# Altium integrated library MU-RK3576J-MB.IntLib: 262 symbols (part 1 of 4)
Pins are listed as number, name and electrical type; pins without a type are passive.

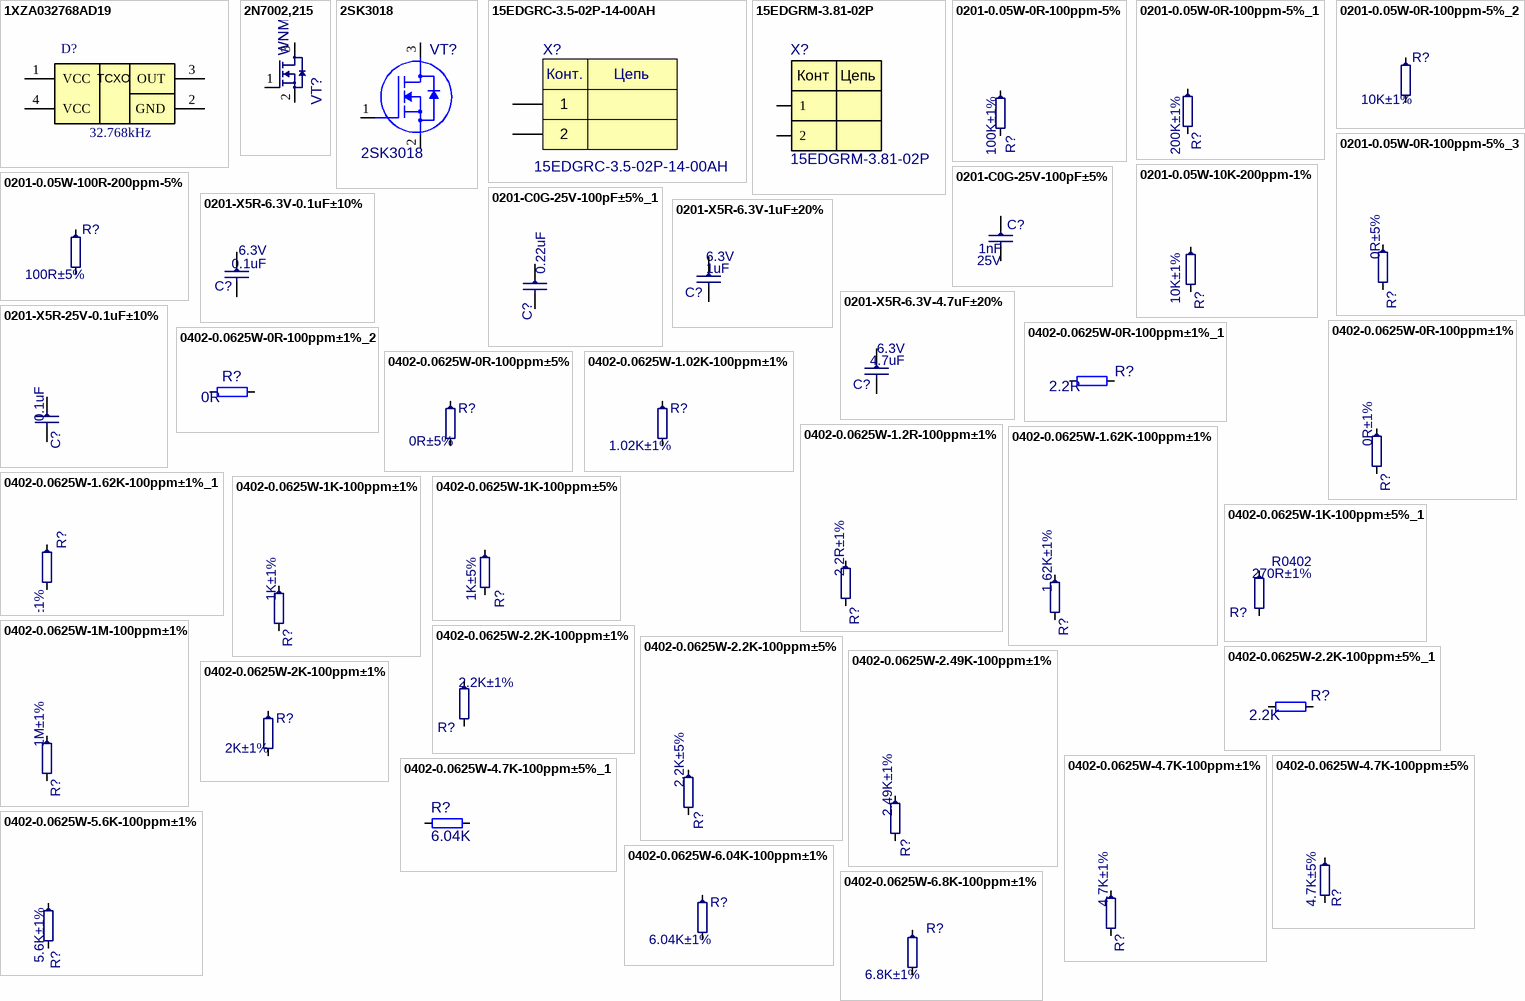
[diagram p0: symbols 1XZA032768AD19 to 0402-0.0625W-6.8K-100ppm±1%]

## 1XZA032768AD19
designator D?, comment 32.768kHz
Part Number: 1XZA032768AD19; Manufacturer: KDS; Check: False; NameFromManufacturer: 1XZA032768AD19; Value: 32.768kHz
footprint 1XZA032768AD19
pins: 1 VCC, 2 GND, 3 OUT, 4 VCC
text: TCXO

## 2N7002,215
designator VT?, comment WNM2016
60V 3A 0.35W Surface Mount SOT-23; Manufacturer: KUU Semiconductor; Place: *); Check: False; Part Number: WNM2016; Voltage: 60V; Value: WNM2016; Temperature: -65°C~150°C";; ComponentLink1Description: DATASHEET; NameFromManufacturer: WNM2016; ComponentLink1URL: https://assets.nexperia.com/documents/data-sheet/2N7002.pdf; Last changeв: 27.10.2022
footprint SOT23
pins: 1 G, 2 S, 3 D

## 2SK3018
designator VT?
N-Channel; Check: False; Part Number: 2SK3018; Value: 2SK3018; NameFromManufacturer: 2SK3018
footprint 2SK3018
pins: 1 G, 2 S, 3 D

## 15EDGRC-3.5-02P-14-00AH
designator X?
Terminal block 2; Manufacturer: Degson; Place: *); Check: False; Part Number: 15EDGRC-3.5-02P-14-00AH; Value: 15EDGRC-3.5-02P-14-00AH; Temperature: -40°C~105°C; ComponentLink1Description: DATASHEET; NameFromManufacturer: 15EDGRC-3.5-02P-14-00AH; ComponentLink1URL: https://octopart.com/15edgrc-3.5-02p-14-00ah-degson-71132713?r=sp; Datasheet: Datasheets/connectors/DOC000872098.pdf; Last changed: 27.10.2022
footprint D1RFRD006-02
pins: 1, 2
text: Конт.; Цепь

## 15EDGRM-3.81-02P
designator X?
Разъемный клеммный блок на плату, 2 контакта. Серия 15EDGRM-3.81; Manufacturer: DEGSON; Check: False; Part Number: 15EDGRM-3.81-02P; Value: 15EDGRM-3.81-02P; NameFromManufacturer: 15EDGRM-3.81-02P
footprint 15EDGRM-3.81-02P
pins: 1, 2
text: Конт; Цепь

## 0201-0.05W-0R-100ppm-5%
designator R?, comment 100K±1%
*; Part Number: 0201-0.05W-100K-5%; NameFromManufacturer: RC0201FR-07100KL; Manufacturer: Yageo; Place: *); Value: 100K; Tolerance: 1%; Check: False; Case: R0201; Temperature: -40°C~125°C; ComponentLink1Description: DATASHEET; ComponentLink1URL: https://www.digikey.com/en/products/detail/yageo/RC0201JR-070RL/1948898; Datasheet: Datasheets/resistors/PYu-RC_Group_51_RoHS_L_11.pdf+BB3:B271; Last changed: 27.10.2022
simulation model Resistor (Model Description)
footprint R0201
pins: 1, 2

## 0201-0.05W-0R-100ppm-5%_1
designator R?, comment 200K±1%
*; Part Number: 0201-0.05W-200K-100ppm-1%; NameFromManufacturer: RC0201FR-07200KL; Manufacturer: Yageo; Place: *); Value: 200K; Tolerance: 1%; Check: False; Case: R0201; Temperature: -40°C~125°C; ComponentLink1Description: DATASHEET; ComponentLink1URL: https://www.digikey.com/en/products/detail/yageo/RC0201JR-070RL/1948898; Datasheet: Datasheets/resistors/PYu-RC_Group_51_RoHS_L_11.pdf+BB3:B271; Last changed: 27.10.2022
simulation model Resistor (Model Description)
footprint R0201
pins: 1, 2

## 0201-0.05W-0R-100ppm-5%_2
designator R?, comment 10K±1%
*; Part Number: 0201-0.05W-10K-100ppm-1%; NameFromManufacturer: RC0201FR-0710KL; Manufacturer: Yageo; Place: *); Value: 10K; Tolerance: 1%; Check: False; Case: R0201; Temperature: -40°C~125°C; ComponentLink1Description: DATASHEET; ComponentLink1URL: https://www.digikey.com/en/products/detail/yageo/RC0201JR-070RL/1948898; Datasheet: Datasheets/resistors/PYu-RC_Group_51_RoHS_L_11.pdf+BB3:B271; Last changed: 27.10.2022
simulation model Resistor (Model Description)
footprint R0201
pins: 1, 2

## 0201-0.05W-0R-100ppm-5%_3
designator R?, comment 0R±5%
*; Part Number: 0201-0.05W-0R-100ppm-5%; NameFromManufacturer: RC0201JR-070RL; Manufacturer: Yageo; Place: *); Value: 0R; Tolerance: 5%; Check: False; Case: R0201; Temperature: -40°C~125°C; ComponentLink1Description: DATASHEET; ComponentLink1URL: https://www.digikey.com/en/products/detail/yageo/RC0201JR-070RL/1948898; Datasheet: Datasheets/resistors/PYu-RC_Group_51_RoHS_L_11.pdf+BB3:B271; Last changed: 27.10.2022
simulation model Resistor (Model Description)
footprint R0201
pins: 1, 2

## 0201-0.05W-10K-200ppm-1%
designator R?, comment 10K±1%
*; Part Number: 0201-0.05W-10K-200ppm-1%; NameFromManufacturer: RC0201FR-0710KL; Manufacturer: Yageo; Place: *); Value: 10K; Tolerance: 1%; Check: False; Case: R0201; Temperature: -40°C~125°C; ComponentLink1Description: DATASHEET; ComponentLink1URL: https://www.terraelectronica.ru/product/597744; Datasheet: Datasheets/resistors/PYu-RC_Group_51_RoHS_L_11.pdf; Last changed: 09.11.2022
simulation model Resistor (Model Description)
footprint R0201
pins: 1, 2

## 0201-0.05W-100R-200ppm-5%
designator R?, comment 100R±5%
*; Part Number: 0201-0.05W-100R-200ppm-5%; NameFromManufacturer: RC0201JR-07100RL; Manufacturer: Yageo; Place: *); Value: 100R; Tolerance: 5%; Check: False; Case: R0201; Temperature: -40°C~125°C; ComponentLink1Description: DATASHEET; ComponentLink1URL: https://www.terraelectronica.ru/product/431790; Datasheet: Datasheets/resistors/PYu-RC_Group_51_RoHS_L_11.pdf; Last changed: 27.10.2022
simulation model Resistor (Model Description)
footprint R0201
pins: 1, 2

## 0201-C0G-25V-100pF±5%
designator C?, comment 1nF  Voltage: 25V
*; Part Number: 0201-C0G-25V-1nF±5%; Manufacturer: muRata; NameFromManufacturer: GRM0335C1E102JA01D; Dielectric: C0G; Place: *); Tolerance: 5%; Check: False; Case: C0201; Value: 1nF; Temperature: -55°C~125°C; ComponentLink2Description: Link to datasheet; ComponentLink1Description: DATASHEET; ComponentLink2URL: https://ru.mouser.com/ProductDetail/YAGEO/CC0201JRNPO8BN101?qs=%2Fha2pyFaduhl6p6a7Jtfij5kOT7C0BCbN0eDEcSOi5wWtTVDmUsGTw%3D%3D; ComponentLink1URL: Datasheets/capacitors/UPY-GP_NP0_16V-to-50V_18.pdf; Last changed: 27.10.2022
footprint C0201
pins: 1, 2
1 alternate drawing of the same symbol

## 0201-C0G-25V-100pF±5%_1
designator C?, comment 0.22uF
*; Part Number: 0201-X5R-10V-220nF±10%; Manufacturer: Yageo; NameFromManufacturer: CC0201KRX5R6BB224; Dielectric: C0G; Voltage: 10V; Place: *); Tolerance: 5%; Check: False; Case: C0201; Value: 0.22uF; Temperature: -55°C~125°C; ComponentLink2Description: Link to datasheet; ComponentLink1Description: DATASHEET; ComponentLink2URL: https://ru.mouser.com/ProductDetail/YAGEO/CC0201JRNPO8BN101?qs=%2Fha2pyFaduhl6p6a7Jtfij5kOT7C0BCbN0eDEcSOi5wWtTVDmUsGTw%3D%3D; ComponentLink1URL: Datasheets/capacitors/UPY-GP_NP0_16V-to-50V_18.pdf; Last changed: 27.10.2022
footprint C0201
pins: 1, 2
1 alternate drawing of the same symbol

## 0201-X5R-6.3V-0.1uF±10%
designator C?, comment 0.1uF  Voltage: 6.3V
Part Number: 0201-X5R-6.3V-0.1uF±10%; Manufacturer: Yageo; NameFromManufacturer: CC0201KRX5R5BB104; Dielectric: X5R; Place: *); Tolerance: 10%; Check: False; Case: C0201; Value: 0.1uF; Temperature: -55°C~85°C; ComponentLink2Description: Link to datasheet; ComponentLink1Description: DATASHEET; ComponentLink2URL: https://www.terraelectronica.ru/product/1020032; ComponentLink1URL: Datasheets/capacitors/UPY-GPHC_X5R_4V-to-50V_27.pdf; Last changed: 27.10.2022
footprint C0201
pins: 1, 2
1 alternate drawing of the same symbol

## 0201-X5R-6.3V-1uF±20%
designator C?, comment 1uF  Voltage: 6.3V
Part Number: 0201-X5R-6.3V-1uF±20%; Manufacturer: Murata Electronics; NameFromManufacturer: GRM033R60J105MEA2D; Dielectric: X5R; Place: *); Tolerance: 20%; Check: False; Case: C0201; Value: 1uF; Temperature: -55°C~85°C; ComponentLink2Description: Link to datasheet; ComponentLink1Description: DATASHEET; ComponentLink2URL: https://www.terraelectronica.ru/product/1209278; ComponentLink1URL: Datasheets/capacitors/GRM033R60J105MEA2-61A.pdf; Last changed: 27.10.2022
footprint C0201
pins: 1, 2
1 alternate drawing of the same symbol

## 0201-X5R-6.3V-4.7uF±20%
designator C?, comment 4.7uF  Voltage: 6.3V
Part Number: 0201-X5R-6.3V-4.7uF±20%; Manufacturer: Murata Electronics; NameFromManufacturer: GRM035R60J475ME15D; Dielectric: X5R; Place: *); Tolerance: 20%; Check: False; Case: C0201; Value: 4.7uF; Temperature: -55°C~85°C; ComponentLink2Description: Link to datasheet; ComponentLink1Description: DATASHEET; ComponentLink2URL: https://www.terraelectronica.ru/product/2272938; ComponentLink1URL: Datasheets/capacitors/GRM035R60J475ME15-01A.pdf; Last changed: 27.10.2022
footprint C0201
pins: 1, 2
1 alternate drawing of the same symbol

## 0201-X5R-25V-0.1uF±10%
designator C?, comment 0.1uF
Part Number: 0201-X5R-25V-0.1uF±10%; Manufacturer: Yageo; NameFromManufacturer: CC0201KRX5R8BB104; Dielectric: X5R; Voltage: 25V; Place: *); Tolerance: 10%; Check: False; Case: C0201; Value: 0.1uF; Temperature: -55°C~85°C; ComponentLink2Description: Link to datasheet; ComponentLink1Description: DATASHEET; ComponentLink2URL: https://octopart.com/cc0201krx5r8bb104-yageo-88496683?r=sp; ComponentLink1URL: Datasheets/capacitors/UPY-GPHC_X5R_4V-to-50V_26.pdf; Last changed: 27.10.2022
footprint C0201
pins: 1, 2
1 alternate drawing of the same symbol

## 0402-0.0625W-0R-100ppm±1%
designator R?, comment 0R±1%
Chip Resistor 0402 0Ω ±1% 50V ±100ppm/℃ Thick Film; Part Number: 0402-0.0625W-0R-100ppm±1%; NameFromManufacturer: RC0402FR-070RL; Manufacturer: Yageo; Place: *); Value: 0R; Check: False; Case: R0402; Tolerance: 1%; Temperature: -55°C~155°C; ComponentLink1Description: DATASHEET; ComponentLink1URL: https://www.chipdip.ru/product0/8000617426?ysclid=l7og5x0plo427794326; Datasheet: Datasheets/resistors/DOC012445956.pdf; Last changed: 27.10.2022
simulation model Resistor (Model Description)
footprint R0402
pins: 1, 2

## 0402-0.0625W-0R-100ppm±1%_1
designator R?, comment 2.2R
Part Number: 0402-0.0625W-2.2R-100ppm±1%; NameFromManufacturer: RC0402FR-072R2L; Manufacturer: Yageo; Place: S; Tolerance: 1%; Check: False; Value: 2.2R; Temperature: -55°C~155°C; ComponentLink1Description: DATASHEET; Datasheet: Datasheets/resistors/DOC012445956.pdf; Last changed: 27.10.2022
simulation model Resistor (Model Description)
footprint R_0402
pins: 1, 2
2 alternate drawings of the same symbol

## 0402-0.0625W-0R-100ppm±1%_2
designator R?, comment 0R
Part Number: 0402-0.0625W-0R-100ppm±1%; NameFromManufacturer: RC0402FR-070RL; Manufacturer: Yageo; Place: S; Tolerance: 1%; Check: False; Value: 0R; Temperature: -55°C~155°C; ComponentLink1Description: DATASHEET; ComponentLink1URL: https://www.chipdip.ru/product0/8000617426?ysclid=l7og5x0plo427794326; Datasheet: Datasheets/resistors/DOC012445956.pdf; Last changed: 27.10.2022
simulation model Resistor (Model Description)
footprint R_0402
pins: 1, 2
2 alternate drawings of the same symbol

## 0402-0.0625W-0R-100ppm±5%
designator R?, comment 0R±5%
Part Number: 0402-0.0625W-0R-100ppm±5%; NameFromManufacturer: RC0402JR-070RL; Manufacturer: Yageo; Place: *); Value: 0R; Tolerance: 5%; Check: False; Case: R0402; Temperature: -55°C~155°C; ComponentLink1Description: DATASHEET; ComponentLink1URL: https://ru.mouser.com/ProductDetail/YAGEO/RC0402JR-070RL?qs=%2Fha2pyFadugNN0LzwXn2qP7HsQ9BBU71VWxeSOFlFaYv9aVJHghTrg%3D%3D; Datasheet: Datasheets/resistors/PYu-RC_Group_51_RoHS_L_11.pdf; Last changed: 27.10.2022
simulation model Resistor (Model Description)
footprint R0402
pins: 1, 2

## 0402-0.0625W-1.02K-100ppm±1%
designator R?, comment 1.02K±1%
Part Number: 0402-0.0625W-1.02K-100ppm±1%; NameFromManufacturer: RC0402FR-071K02L; Manufacturer: Yageo; Place: *); Value: 1.02K; Tolerance: 1%; Check: False; Case: R0402; Temperature: -55°C~155°C; ComponentLink1Description: DATASHEET; ComponentLink1URL: https://www.terraelectronica.ru/product/876888; Datasheet: Datasheets/resistors/PYu-RC_Group_51_RoHS_L_12.pdf; Last changed: 27.10.2022
simulation model Resistor (Model Description)
footprint R0402
pins: 1, 2

## 0402-0.0625W-1.2R-100ppm±1%
designator R?, comment 2.2R±1%
Part Number: 0402-0.0625W-2.2R-100ppm±1%; NameFromManufacturer: AC0402FR-072R2L; Manufacturer: Yageo; Place: *); Value: 2.2R; Tolerance: 1%; Check: False; Case: R0402; Temperature: -55°C~155°C; ComponentLink1Description: DATASHEET; ComponentLink1URL: https://www.chipdip.ru/product0/9000189669; Datasheet: Datasheets/resistors/DOC011312614.pdf; Last changed: 27.10.2022
simulation model Resistor (Model Description)
footprint R0402
pins: 1, 2

## 0402-0.0625W-1.62K-100ppm±1%
designator R?, comment 1.62K±1%
Part Number: 0402-0.0625W-1.62K-100ppm±1%; NameFromManufacturer: RC0402FR-071K62L; Manufacturer: Yageo; Place: *); Value: 1.62K; Tolerance: 1%; Check: False; Case: R0402; Temperature: -55°C~155°C; ComponentLink1Description: DATASHEET; ComponentLink1URL: https://www.digikey.com/en/products/detail/yageo/RC0402FR-071K62L/5280902; Datasheet: Datasheets/resistors/PYu-RC_Group_51_RoHS_L_11.pdf; Last changed: 27.10.2022
simulation model Resistor (Model Description)
footprint R0402
pins: 1, 2

## 0402-0.0625W-1.62K-100ppm±1%_1
designator R?, comment 4.02K±1%
Part Number: 0402-0.0625W-4.02K-100ppm±1%; NameFromManufacturer: RC0402FR-074K02L; Manufacturer: Yageo; Place: *); Value: 4.02K; Tolerance: 1%; Check: False; Case: R0402; Temperature: -55°C~155°C; ComponentLink1Description: DATASHEET; ComponentLink1URL: https://www.digikey.com/en/products/detail/yageo/RC0402FR-071K62L/5280902; Datasheet: Datasheets/resistors/PYu-RC_Group_51_RoHS_L_11.pdf; Last changed: 27.10.2022
simulation model Resistor (Model Description)
footprint R0402
pins: 1, 2

## 0402-0.0625W-1K-100ppm±1%
designator R?, comment 1K±1%
Part Number: 0402-0.0625W-1K-100ppm±1%; NameFromManufacturer: RC0402FR-071KL; Manufacturer: Yageo; Place: *); Value: 1K; Tolerance: 1%; Check: False; Case: R0402; Temperature: -55°C~155°C; ComponentLink1Description: DATASHEET; ComponentLink1URL: https://ru.mouser.com/datasheet/2/447/PYu_RC_Group_51_RoHS_L_10-1664068.pdf; Datasheet: Datasheets/resistors/PYu_RC_Group_51_RoHS_L_10-1664068.pdf; Last changed: 27.10.2022
simulation model Resistor (Model Description)
footprint R0402
pins: 1, 2

## 0402-0.0625W-1K-100ppm±5%
designator R?, comment 1K±5%
Part Number: 0402-0.0625W-1K-100ppm±5%; NameFromManufacturer: RC0402JR-071KL; Manufacturer: Yageo; Place: *); Value: 1K; Tolerance: 5%; Check: False; Case: R0402; Temperature: -55°C~155°C; ComponentLink1Description: DATASHEET; ComponentLink1URL: https://ru.mouser.com/ProductDetail/YAGEO/RC0402JR-071KL?qs=%2Fha2pyFadugNN0LzwXn2qBG%2Fxv0pCy6gh7Z%252B1hZJT2CnjLeHVORGDQ%3D%3D; Datasheet: Datasheets/resistors/PYu-RC_Group_51_RoHS_L_11.pdf; Last changed: 27.10.2022
simulation model Resistor (Model Description)
footprint R0402
pins: 1, 2

## 0402-0.0625W-1K-100ppm±5%_1
designator R?, comment 270R±1%  Case: R0402
Part Number: 0402-0.0625W-270R-100ppm±1%; NameFromManufacturer: 0402WGF2700TCE; Manufacturer: UNI-ROYAL; Place: *); Value: 270R; Tolerance: 1%; Check: False; Temperature: -55°C~155°C; ComponentLink1Description: DATASHEET; ComponentLink1URL: https://ru.mouser.com/ProductDetail/YAGEO/RC0402JR-071KL?qs=%2Fha2pyFadugNN0LzwXn2qBG%2Fxv0pCy6gh7Z%252B1hZJT2CnjLeHVORGDQ%3D%3D; Datasheet: Datasheets/resistors/PYu-RC_Group_51_RoHS_L_11.pdf; Last changed: 27.10.2022
simulation model Resistor (Model Description)
footprint R0402
pins: 1, 2

## 0402-0.0625W-1M-100ppm±1%
designator R?, comment 1M±1%
Chip Resistor 0402 1MΩ ±1% 50V ±100ppm/℃ Thick Film; Part Number: 0402-0.0625W-1M-100ppm±1%; NameFromManufacturer: RC0402FR-071ML; Manufacturer: Yageo; Place: *); Value: 1M; Check: False; Case: R0402; Tolerance: 1%; Temperature: -55°C~155°C; ComponentLink1Description: DATASHEET; ComponentLink1URL: https://www.yageo.com/upload/media/product/productsearch/datasheet/rchip/PYu-RC_Group_51_RoHS_L_11.pdf; Datasheet: Datasheets/resistors/PYu-RC_Group_51_RoHS_L_11.pdf; Last changed: 27.10.2022
simulation model Resistor (Model Description)
footprint R0402
pins: 1, 2

## 0402-0.0625W-2.2K-100ppm±1%
designator R?, comment 2.2K±1%
*; Part Number: 0402-0.0625W-2.2K-100ppm±1%; NameFromManufacturer: RC0402FR-072K2L; Manufacturer: Yageo; Place: *); Value: 2.2K; Tolerance: 1%; Check: False; Case: R0402; Temperature: -55°C~155°C; ComponentLink1Description: DATASHEET; ComponentLink1URL: https://www.compel.ru/infosheet/YAG/SR0402FR-072K2L; Datasheet: Datasheets/resistors/PYu-SR_D_F tol_RoHS_L_5.pdf; Last changed: 27.10.2022
simulation model Resistor (Model Description)
footprint R0402
pins: 1, 2

## 0402-0.0625W-2.2K-100ppm±5%
designator R?, comment 2.2K±5%
*; Part Number: 0402-0.0625W-2.2K-100ppm±5%; NameFromManufacturer: RC0402JR-072K2L; Manufacturer: Yageo; Place: *); Value: 2.2K; Tolerance: 5%; Check: False; Case: R0402; Temperature: -55°C~155°C; ComponentLink1Description: DATASHEET; ComponentLink1URL: https://octopart.com/ac0402jr-072k2l-yageo-23514430?r=sp; Datasheet: Datasheets/resistors/PYu-AC_51_RoHS_L_8.pdf; Last changed: 27.10.2022
simulation model Resistor (Model Description)
footprint R0402
pins: 1, 2

## 0402-0.0625W-2.2K-100ppm±5%_1
designator R?, comment 2.2K
*; Part Number: 0402-0.0625W-2.2K-100ppm±5%; NameFromManufacturer: RC0402JR-072K2L; Manufacturer: Yageo; Place: S; Tolerance: 5%; Check: False; Value: 2.2K; Temperature: -55°C~155°C; ComponentLink1Description: DATASHEET; ComponentLink1URL: https://octopart.com/ac0402jr-072k2l-yageo-23514430?r=sp; Datasheet: Datasheets/resistors/PYu-AC_51_RoHS_L_8.pdf; Last changed: 27.10.2022
simulation model Resistor (Model Description)
footprint R_0402
pins: 1, 2
2 alternate drawings of the same symbol

## 0402-0.0625W-2.49K-100ppm±1%
designator R?, comment 2.49K±1%
Chip Resistor 0402 2.49kΩ ±1% 50V ±100ppm/℃ Thick Film; Part Number: 0402-0.0625W-2.49K-100ppm±1%; NameFromManufacturer: RC0402FR-072K49L; Manufacturer: Yageo; Place: *); Value: 2.49K; Check: False; Case: R0402; Tolerance: 1%; Temperature: -55°C~155°C; ComponentLink1Description: DATASHEET; ComponentLink1URL: https://www.electronshik.ru/item/YAG/RC0402FR-072K49L; Datasheet: Datasheets/resistors/PYu-RC_Group_51_RoHS_L_12.pdf; Last changed: 27.10.2022
simulation model Resistor (Model Description)
footprint R0402
pins: 1, 2

## 0402-0.0625W-2K-100ppm±1%
designator R?, comment 2K±1%
Part Number: 0402-0.0625W-2K-100ppm±1%; NameFromManufacturer: RC0402FR-072KL; Manufacturer: Yageo; Place: *); Value: 2K; Tolerance: 1%; Check: False; Case: R0402; Temperature: -55°C~155°C; ComponentLink1Description: DATASHEET; ComponentLink1URL: https://ru.mouser.com/ProductDetail/YAGEO/RC0402FR-072KL?qs=%2Fha2pyFaduhjtLcYvKXQ8CqCkWjwqUqgtfrQweQcV7%252BeDonvCaUsqQ%3D%3D; Datasheet: Datasheets/resistors/PYu-RC_Group_51_RoHS_L_11.pdf; Last changed: 27.10.2022
simulation model Resistor (Model Description)
footprint R0402
pins: 1, 2

## 0402-0.0625W-4.7K-100ppm±1%
designator R?, comment 4.7K±1%
Part Number: 0402-0.0625W-4.7K-100ppm±1%; NameFromManufacturer: RC0402FR-074K7L; Manufacturer: Yageo; Place: *); Value: 4.7K; Tolerance: 1%; Check: False; Case: R0402; Temperature: -55°C~155°C; ComponentLink1Description: DATASHEET; ComponentLink1URL: https://www.promelec.ru/product/229739/; Datasheet: Datasheets/resistors/PYu-RC_Group_51_RoHS_L_11.pdf; Last changed: 11.11.2022
simulation model Resistor (Model Description)
footprint R0402
pins: 1, 2

## 0402-0.0625W-4.7K-100ppm±5%
designator R?, comment 4.7K±5%
Part Number: 0402-0.0625W-4.7K-100ppm±5%; NameFromManufacturer: RC0402JR-074K7L; Manufacturer: Yageo; Place: *); Value: 4.7K; Tolerance: 5%; Check: False; Case: R0402; Temperature: -55°C~155°C; ComponentLink1Description: DATASHEET; ComponentLink1URL: https://ru.mouser.com/ProductDetail/YAGEO/RC0402JR-074K7L?qs=%2Fha2pyFadugNN0LzwXn2qDR0lAGI9qruexMTkPBFwcD9DqmvUvet2g%3D%3D; Datasheet: Datasheets/resistors/PYu-RC_Group_51_RoHS_L_11.pdf; Last changed: 27.10.2022
simulation model Resistor (Model Description)
footprint R0402
pins: 1, 2

## 0402-0.0625W-4.7K-100ppm±5%_1
designator R?, comment 6.04K
Part Number: 0402-0.0625W-6.04K-100ppm±5%; NameFromManufacturer: RC0402FR-076K04L; Manufacturer: Yageo; Place: S; Tolerance: 5%; Check: False; Value: 6.04K; Temperature: -55°C~155°C; ComponentLink1Description: DATASHEET; Last changed: 27.10.2022
simulation model Resistor (Model Description)
footprint R_0402
pins: 1, 2
2 alternate drawings of the same symbol

## 0402-0.0625W-5.6K-100ppm±1%
designator R?, comment 5.6K±1%
*; Part Number: 0402-0.0625W-5.6K-100ppm±1%; NameFromManufacturer: RC0402FR-075K6L; Manufacturer: Yageo; Place: *); Value: 5.6K; Tolerance: 1%; Check: False; Case: R0402; Temperature: -40°C~155°C; ComponentLink1Description: DATASHEET; ComponentLink1URL: https://www.terraelectronica.ru/product/361844; Datasheet: Datasheets/resistors/PYu-RC_Group_51_RoHS_L_12.pdf; Last changed: 27.10.2022
simulation model Resistor (Model Description)
footprint R0402
pins: 1, 2

## 0402-0.0625W-6.04K-100ppm±1%
designator R?, comment 6.04K±1%
Part Number: 0402-0.0625W-6.04K-100ppm±1%; NameFromManufacturer: RC0402FR-076K04L; Manufacturer: Yageo; Place: *); Value: 6.04K; Tolerance: 1%; Check: False; Case: R0402; Temperature: -55°C~155°C; ComponentLink1Description: DATASHEET; ComponentLink1URL: https://www.electronshik.ru/item/YAG/RC0402FR-076K04L; Datasheet: Datasheets/resistors/PYu-RC_Group_51_RoHS_L_11.pdf; Last changed: 18.11.2022
simulation model Resistor (Model Description)
footprint R0402
pins: 1, 2

## 0402-0.0625W-6.8K-100ppm±1%
designator R?, comment 6.8K±1%
Part Number: 0402-0.0625W-6.8K-100ppm±1%; NameFromManufacturer: RC0402FR-076K8L; Manufacturer: Yageo; Place: *); Value: 6.8K; Tolerance: 1%; Check: False; Case: R0402; Temperature: -55°C~155°C; ComponentLink1Description: DATASHEET; ComponentLink1URL: https://www.terraelectronica.ru/product/538831; Datasheet: Datasheets/resistors/PYu-RC_Group_51_RoHS_L_12.pdf; Last changed: 27.10.2022
simulation model Resistor (Model Description)
footprint R0402
pins: 1, 2

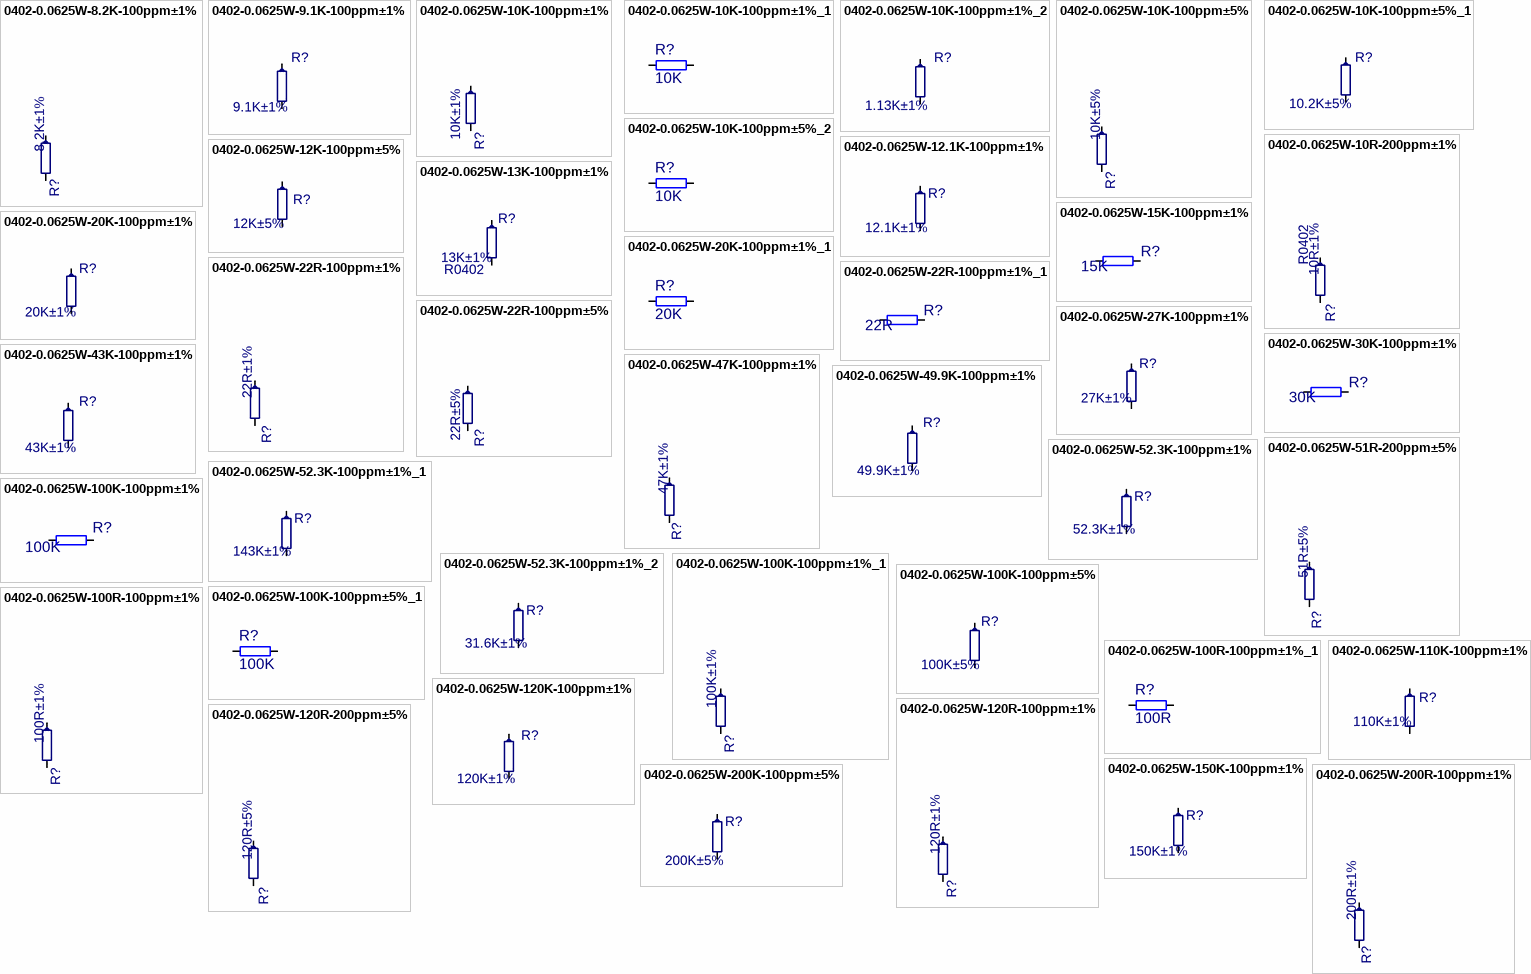
[diagram p1: symbols 0402-0.0625W-8.2K-100ppm±1% to 0402-0.0625W-200R-100ppm±1%]

## 0402-0.0625W-8.2K-100ppm±1%
designator R?, comment 8.2K±1%
Part Number: 0402-0.0625W-8.2K-100ppm±1%; NameFromManufacturer: RC0402FR-078K2L; Manufacturer: Yageo; Place: *); Value: 8.2K; Tolerance: 1%; Check: False; Case: R0402; Temperature: -55°C~155°C; ComponentLink1Description: DATASHEET; ComponentLink1URL: https://www.compel.ru/infosheet/YAG/RC0402FR-078K2L; Datasheet: Datasheets/resistors/PYu-RC_Group_51_RoHS_L_11.pdf; Last changed: 27.10.2022
simulation model Resistor (Model Description)
footprint R0402
pins: 1, 2

## 0402-0.0625W-9.1K-100ppm±1%
designator R?, comment 9.1K±1%
Part Number: 0402-0.0625W-9.1K-100ppm±1%; NameFromManufacturer: RC0402FR-079K1L; Manufacturer: Yageo; Place: *); Value: 9.1K; Tolerance: 1%; Check: False; Case: R0402; Temperature: -55°C~155°C; ComponentLink1Description: DATASHEET; ComponentLink1URL: digikey.com/en/products/detail/yageo/RC0402FR-079K1L/726668; Datasheet: Datasheets/resistors/PYu-RC_Group_51_RoHS_L_12.pdf; Last changed: 27.10.2022
simulation model Resistor (Model Description)
footprint R0402
pins: 1, 2

## 0402-0.0625W-10K-100ppm±1%
designator R?, comment 10K±1%
Chip Resistor 0402 10kΩ ±1% 50V ±100ppm/℃ Thick Film; Part Number: 0402-0.0625W-10K-100ppm±1%; NameFromManufacturer: RC0402FR-0710KL; Manufacturer: Yageo; Place: *); Value: 10K; Check: False; Case: R0402; Tolerance: 1%; Temperature: -55°C~155°C; ComponentLink1Description: DATASHEET; ComponentLink1URL: https://ru.mouser.com/ProductDetail/YAGEO/RC0402FR-0710KL?qs=%2Fha2pyFaduhjtLcYvKXQ8IogF7YwN7YtH%252BOO8ZtEEMnoa4yoWYcwpw%3D%3D; Datasheet: Datasheets/resistors/PYu-RC_Group_51_RoHS_L_11.pdf; Last changed: 27.10.2022
simulation model Resistor (Model Description)
footprint R0402
pins: 1, 2

## 0402-0.0625W-10K-100ppm±1%_1
designator R?, comment 10K
Part Number: 0402-0.0625W-10K-100ppm±1%; NameFromManufacturer: RC0402FR-0710KL; Manufacturer: Yageo; Place: S; Tolerance: 1%; Check: False; Annotation: *; Param: *; Value: 10K; Temperature: -55°C~155°C; ComponentLink1Description: DATASHEET; ComponentLink1URL: https://ru.mouser.com/ProductDetail/YAGEO/RC0402FR-0710KL?qs=%2Fha2pyFaduhjtLcYvKXQ8IogF7YwN7YtH%252BOO8ZtEEMnoa4yoWYcwpw%3D%3D; Datasheet: #https://www.yageo.com/upload/media/product/productsearch/datasheet/rchip/PYu-RC_Group_51_RoHS_L_11.pdf#; Last changed: 12.10.2021; ClassName: UART-GPS
simulation model Resistor (Model Description)
footprint R_0402
pins: 1, 2
2 alternate drawings of the same symbol

## 0402-0.0625W-10K-100ppm±1%_2
designator R?, comment 1.13K±1%
Chip Resistor 0402 10kΩ ±1% 50V ±100ppm/℃ Thick Film; Part Number: 0402-0.0625W-1.13K-100ppm±1%; NameFromManufacturer: RC0402FR-071K13L; Manufacturer: Yageo; Place: *); Value: 1.13K; Check: False; Case: R0402; Tolerance: 1%; Temperature: -55°C~155°C; ComponentLink1Description: DATASHEET; ComponentLink1URL: https://ru.mouser.com/ProductDetail/YAGEO/RC0402FR-0710KL?qs=%2Fha2pyFaduhjtLcYvKXQ8IogF7YwN7YtH%252BOO8ZtEEMnoa4yoWYcwpw%3D%3D; Datasheet: Datasheets/resistors/PYu-RC_Group_51_RoHS_L_11.pdf; Last changed: 27.10.2022
simulation model Resistor (Model Description)
footprint R0402
pins: 1, 2

## 0402-0.0625W-10K-100ppm±5%
designator R?, comment 10K±5%
Part Number: 0402-0.0625W-10K-100ppm±5%; NameFromManufacturer: RC0402JR-0710KL; Manufacturer: Yageo; Place: *); Value: 10K; Tolerance: 5%; Check: False; Case: R0402; Temperature: -55°C~155°C; ComponentLink1Description: DATASHEET; ComponentLink1URL: https://ru.mouser.com/ProductDetail/YAGEO/RC0402JR-0710KL?qs=%2Fha2pyFadugNN0LzwXn2qF8HRAp201xOpXu%252BapQnyvRGE%2F%252Bpr1TWjQ%3D%3D; Datasheet: Datasheets/resistors/PYu-RC_Group_51_RoHS_L_11.pdf; Last changed: 27.10.2022
simulation model Resistor (Model Description)
footprint R0402
pins: 1, 2

## 0402-0.0625W-10K-100ppm±5%_1
designator R?, comment 10.2K±5%
Part Number: 0402-0.0625W-10.2K-100ppm±5%; NameFromManufacturer: RC0402FR-0710K2L; Manufacturer: Yageo; Place: *); Value: 10.2K; Tolerance: 5%; Check: False; Case: R0402; Temperature: -55°C~155°C; ComponentLink1Description: DATASHEET; ComponentLink1URL: https://ru.mouser.com/ProductDetail/YAGEO/RC0402JR-0710KL?qs=%2Fha2pyFadugNN0LzwXn2qF8HRAp201xOpXu%252BapQnyvRGE%2F%252Bpr1TWjQ%3D%3D; Datasheet: Datasheets/resistors/PYu-RC_Group_51_RoHS_L_11.pdf; Last changed: 27.10.2022
simulation model Resistor (Model Description)
footprint R0402
pins: 1, 2

## 0402-0.0625W-10K-100ppm±5%_2
designator R?, comment 10K
Part Number: 0402-0.0625W-10K-100ppm±5%; NameFromManufacturer: RC0402JR-0710KL; Manufacturer: Yageo; Place: S; Tolerance: 5%; Check: False; Value: 10K; Temperature: -55°C~155°C; ComponentLink1Description: DATASHEET; ComponentLink1URL: https://ru.mouser.com/ProductDetail/YAGEO/RC0402JR-0710KL?qs=%2Fha2pyFadugNN0LzwXn2qF8HRAp201xOpXu%252BapQnyvRGE%2F%252Bpr1TWjQ%3D%3D; Datasheet: Datasheets/resistors/PYu-RC_Group_51_RoHS_L_11.pdf; Last changed: 27.10.2022
simulation model Resistor (Model Description)
footprint R_0402
pins: 1, 2
2 alternate drawings of the same symbol

## 0402-0.0625W-10R-200ppm±1%
designator R?, comment 10R±1%  Case: R0402
Part Number: 0402-0.0625W-10R-200ppm±1%; NameFromManufacturer: RC0402FR-0710RL; Manufacturer: Yageo; Place: *); Value: 10R; Tolerance: 1%; Check: False; Temperature: -55°C~155°C; ComponentLink1Description: DATASHEET; ComponentLink1URL: https://www.compel.ru/infosheet/YAG/RC0402FR-0710RL; Datasheet: Datasheets/resistors/PYu-RC_Group_51_RoHS_L_11.pdf; Last changed: 27.10.2022
simulation model Resistor (Model Description)
footprint R0402
pins: 1, 2

## 0402-0.0625W-12.1K-100ppm±1%
designator R?, comment 12.1K±1%
Chip Resistor 0402 12.1kΩ ±1% 50V ±100ppm/℃ Thick Film; Part Number: 0402-0.0625W-12.1K-100ppm±1%; NameFromManufacturer: RC0402FR-0712K1L; Manufacturer: Yageo; Place: *); Value: 12.1K; Check: False; Case: R0402; Tolerance: 1%; Temperature: -55°C~155°C; ComponentLink1Description: DATASHEET; ComponentLink1URL: https://www.digikey.com/en/products/detail/yageo/RC0402FR-0712K1L/726533; Datasheet: Datasheets/resistors/PYu-RC_Group_51_RoHS_L_11.pdf; Last changed: 27.10.2022
simulation model Resistor (Model Description)
footprint R0402
pins: 1, 2

## 0402-0.0625W-12K-100ppm±5%
designator R?, comment 12K±5%
Part Number: 0402-0.0625W-12K-100ppm±5%; NameFromManufacturer: WR04X123JTL; Manufacturer: Walsin Technology Corporation; Place: *); Value: 12K; Tolerance: 5%; Check: False; Case: R0402; Temperature: -55°C~155°C; ComponentLink1Description: DATASHEET; ComponentLink1URL: https://eu.mouser.com/ProductDetail/Walsin/WR04X123-JTL?qs=1w%252B2sDiFrrEqkjp89ZDzsQ%3D%3D; Datasheet: Datasheets\resistors\WR04X103JTL-datasheet-pdf-ru.findic.com.pdf#Datasheets\resistors\WR04X103JTL-datasheet-pdf-ru.findic.com.pdf#; Last changed: 07.11.2022
simulation model Resistor (Model Description)
footprint R0402
pins: 1, 2

## 0402-0.0625W-13K-100ppm±1%
designator R?, comment 13K±1%  Case: R0402
Part Number: 0402-0.0625W-13K-100ppm±1%; NameFromManufacturer: RC0402FR-0713KL; Manufacturer: Yageo; Place: *); Value: 13K; Tolerance: 1%; Check: False; Temperature: -55°C~155°C; ComponentLink1Description: DATASHEET; ComponentLink1URL: https://www.electronshik.ru/item/YAG/RC0402FR-0713KL; Datasheet: Datasheets/resistors/PYu-RC_Group_51_RoHS_L_12.pdf; Last changed: 27.10.2022
simulation model Resistor (Model Description)
footprint R0402
pins: 1, 2

## 0402-0.0625W-15K-100ppm±1%
designator R?, comment 15K
Part Number: 0402-0.0625W-15K-100ppm±1%; NameFromManufacturer: RC0402FR-0715KL; Manufacturer: Yageo; Place: S; Tolerance: 1%; Check: False; Value: 15K; Temperature: -55°C~155°C; ComponentLink1Description: DATASHEET; ComponentLink1URL: https://www.terraelectronica.ru/product/2781795; Last changed: 27.10.2022
simulation model Resistor (Model Description)
footprint R_0402
pins: 1, 2
2 alternate drawings of the same symbol

## 0402-0.0625W-20K-100ppm±1%
designator R?, comment 20K±1%
Chip Resistor 0402 20kΩ ±1% 50V ±100ppm/℃ Thick Film; Part Number: 0402-0.0625W-20K-100ppm±1%; NameFromManufacturer: RC0402FR-0720KL; Manufacturer: Yageo; Place: *); Value: 20K; Check: False; Case: R0402; Tolerance: 1%; Temperature: -55°C~155°C; ComponentLink1Description: DATASHEET; ComponentLink1URL: https://www.terraelectronica.ru/product/506449; Datasheet: Datasheets/resistors/PYu-RC_Group_51_RoHS_L_11.pdf; Last changed: 27.10.2022
simulation model Resistor (Model Description)
footprint R0402
pins: 1, 2

## 0402-0.0625W-20K-100ppm±1%_1
designator R?, comment 20K
Part Number: 0402-0.0625W-20K-100ppm±1%; NameFromManufacturer: RC0402FR-0720KL; Manufacturer: Yageo; Place: S; Tolerance: 1%; Check: False; Value: 20K; Temperature: -55°C~155°C; ComponentLink1Description: DATASHEET; ComponentLink1URL: https://www.terraelectronica.ru/product/506449; Datasheet: Datasheets/resistors/PYu-RC_Group_51_RoHS_L_11.pdf; Last changed: 27.10.2022
simulation model Resistor (Model Description)
footprint R_0402
pins: 1, 2
2 alternate drawings of the same symbol

## 0402-0.0625W-22R-100ppm±1%
designator R?, comment 22R±1%
Chip Resistor 0402 22Ω ±1% 50V ±100ppm/℃ Thick Film; Part Number: 0402-0.0625W-22R-100ppm±1%; NameFromManufacturer: RC0402FR-0722RL; Manufacturer: Yageo; Place: *); Value: 22R; Check: False; Case: R0402; Tolerance: 1%; Temperature: -55°C~155°C; ComponentLink1Description: DATASHEET; ComponentLink1URL: https://www.yageo.com/upload/media/product/productsearch/datasheet/rchip/PYu-RC_Group_51_RoHS_L_11.pdf; Datasheet: Datasheets/resistors/PYu-RC_Group_51_RoHS_L_11.pdf; Last changed: 27.10.2022
simulation model Resistor (Model Description)
footprint R0402
pins: 1, 2

## 0402-0.0625W-22R-100ppm±1%_1
designator R?, comment 22R
Part Number: 0402-0.0625W-22R-100ppm±1%; NameFromManufacturer: RC0402FR-0722RL; Manufacturer: Yageo; Place: S; Tolerance: 1%; Check: False; Value: 22R; Temperature: -55°C~155°C; ComponentLink1Description: DATASHEET; ComponentLink1URL: https://www.yageo.com/upload/media/product/productsearch/datasheet/rchip/PYu-RC_Group_51_RoHS_L_11.pdf; Datasheet: Datasheets/resistors/PYu-RC_Group_51_RoHS_L_11.pdf; Last changed: 27.10.2022
simulation model Resistor (Model Description)
footprint R_0402
pins: 1, 2
2 alternate drawings of the same symbol

## 0402-0.0625W-22R-100ppm±5%
designator R?, comment 22R±5%
Part Number: 0402-0.0625W-22R-100ppm±5%; NameFromManufacturer: RC0402JR-0722RL; Manufacturer: Yageo; Place: *); Value: 22R; Tolerance: 5%; Check: False; Case: R0402; Temperature: -55°C~155°C; ComponentLink1Description: DATASHEET; ComponentLink1URL: https://www.terraelectronica.ru/pdf/show?pdf_file=%252Fds%252Fpdf%252FR%252FRC0402.pdf; Datasheet: Datasheets/resistors/PYu-RC_Group_51_RoHS_L_12.pdf; Last changed: 27.10.2022
simulation model Resistor (Model Description)
footprint R0402
pins: 1, 2

## 0402-0.0625W-27K-100ppm±1%
designator R?, comment 27K±1%
Part Number: 0402-0.0625W-27K-100ppm±1%; NameFromManufacturer: RC0402FR-0727KL; Manufacturer: Yageo; Place: *); Value: 27K; Tolerance: 1%; Check: False; Case: R0402; Temperature: -55°C~155°C; ComponentLink1Description: DATASHEET; ComponentLink1URL: https://eu.mouser.com/ProductDetail/YAGEO/RC0402FR-0727KL?qs=UOUeRUa%252B8Wnc61O5LQjN8Q%3D%3D; Datasheet: Datasheets/resistors/PYu-RC_Group_51_RoHS_L_11.pdf; Last changed: 27.10.2022
simulation model Resistor (Model Description)
footprint R0402
pins: 1, 2

## 0402-0.0625W-30K-100ppm±1%
designator R?, comment 30K
Part Number: 0402-0.0625W-30K-100ppm±1%; NameFromManufacturer: RC0402FR-0730K1L; Manufacturer: Yageo; Place: S; Tolerance: 1%; Check: False; Value: 30K; Temperature: -55°C~155°C; ComponentLink1Description: DATASHEET; ComponentLink1URL: https://www.compel.ru/infosheet/YAG/RC0402FR-0730K1L; Datasheet: Datasheets/resistors/PYu-RC_Group_51_RoHS_L_11.pdf; Last changed: 27.10.2022
simulation model Resistor (Model Description)
footprint R_0402
pins: 1, 2
2 alternate drawings of the same symbol

## 0402-0.0625W-43K-100ppm±1%
designator R?, comment 43K±1%
Part Number: 0402-0.0625W-43K-100ppm±1%; NameFromManufacturer: RC0402FR-0743KL; Manufacturer: Yageo; Place: *); Value: 43K; Tolerance: 1%; Check: False; Case: R0402; Temperature: -55°C~155°C; ComponentLink1Description: DATASHEET; ComponentLink1URL: https://www.compel.ru/infosheet/YAG/RC0402FR-0743KL; Datasheet: Datasheets/resistors/PYu-RC_Group_51_RoHS_L_11.pdf; Last changed: 27.10.2022
simulation model Resistor (Model Description)
footprint R0402
pins: 1, 2

## 0402-0.0625W-47K-100ppm±1%
designator R?, comment 47K±1%
Part Number: 0402-0.0625W-47K-100ppm±1%; NameFromManufacturer: RC0402FR-0747KL; Manufacturer: Yageo; Place: *); Value: 47K; Tolerance: 1%; Check: False; Case: R0402; Temperature: -55°C~155°C; ComponentLink1Description: DATASHEET; ComponentLink1URL: https://www.terraelectronica.ru/pdf/show?pdf_file=%252Fds%252Fpdf%252FR%252FRC0402.pdf; Datasheet: Datasheets/resistors/PYu-RC_Group_51_RoHS_L_12.pdf; Last changed: 27.10.2022
simulation model Resistor (Model Description)
footprint R0402
pins: 1, 2

## 0402-0.0625W-49.9K-100ppm±1%
designator R?, comment 49.9K±1%
Chip Resistor 0402 49.9kΩ ±1% 50V ±100ppm/℃ Thick Film; Part Number: 0402-0.0625W-49.9K-100ppm±1%; NameFromManufacturer: RC0402FR-0749K9L; Manufacturer: Yageo; Place: *); Value: 49.9K; Check: False; Case: R0402; Tolerance: 1%; Temperature: -55°C~155°C; ComponentLink1Description: DATASHEET; ComponentLink1URL: https://www.terraelectronica.ru/product/562862; Datasheet: Datasheets/resistors/PYu-RC_Group_51_RoHS_L_11.pdf; Last changed: 27.10.2022
simulation model Resistor (Model Description)
footprint R0402
pins: 1, 2

## 0402-0.0625W-51R-200ppm±5%
designator R?, comment 51R±5%
*; Part Number: 0402-0.0625W-51R-200ppm±5%; NameFromManufacturer: RC0402JR-0751RP; Manufacturer: Yageo; Place: *); Value: 51R; Tolerance: 5%; Check: False; Case: R0402; Temperature: -55°C~155°C; ComponentLink1Description: DATASHEET; ComponentLink1URL: https://octopart.com/rc0402jr-0751rp-yageo-47616059?r=sp; Datasheet: Datasheets/resistors/yago_s_a0006248068_1-2286728.pdf; Last changed: 27.10.2022
simulation model Resistor (Model Description)
footprint R0402
pins: 1, 2

## 0402-0.0625W-52.3K-100ppm±1%
designator R?, comment 52.3K±1%
Part Number: 0402-0.0625W-52.3K-100ppm±1%; NameFromManufacturer: RC0402FR-0752K3L; Manufacturer: Yageo; Place: *); Value: 52.3K; Tolerance: 1%; Check: False; Case: R0402; Temperature: -55°C~155°C; ComponentLink1Description: DATASHEET; ComponentLink1URL: https://www.promelec.ru/product/306095/; Datasheet: Datasheets/resistors/PYu-RC_Group_51_RoHS_L_12.pdf; Last changed: 31.03.2023
simulation model Resistor (Model Description)
footprint R0402
pins: 1, 2

## 0402-0.0625W-52.3K-100ppm±1%_1
designator R?, comment 143K±1%
Part Number: 0402-0.0625W-143K-100ppm±1%; NameFromManufacturer: RC0402FR-07143KL; Manufacturer: Yageo; Place: *); Value: 143K; Tolerance: 1%; Check: False; Case: R0402; Temperature: -55°C~155°C; ComponentLink1Description: DATASHEET; ComponentLink1URL: https://www.promelec.ru/product/306095/; Datasheet: Datasheets/resistors/PYu-RC_Group_51_RoHS_L_12.pdf; Last changed: 31.03.2023
simulation model Resistor (Model Description)
footprint R0402
pins: 1, 2

## 0402-0.0625W-52.3K-100ppm±1%_2
designator R?, comment 31.6K±1%
Part Number: 0402-0.0625W-31.6K-100ppm±1%; NameFromManufacturer: RC0402FR-0731K6L; Manufacturer: Yageo; Place: *); Value: 31.6K; Tolerance: 1%; Check: False; Case: R0402; Temperature: -55°C~155°C; ComponentLink1Description: DATASHEET; ComponentLink1URL: https://www.promelec.ru/product/306095/; Datasheet: Datasheets/resistors/PYu-RC_Group_51_RoHS_L_12.pdf; Last changed: 31.03.2023
simulation model Resistor (Model Description)
footprint R0402
pins: 1, 2

## 0402-0.0625W-100K-100ppm±1%
designator R?, comment 100K
Part Number: 0402-0.0625W-100K-100ppm±1%; NameFromManufacturer: RC0402FR-07100KL; Manufacturer: Yageo; Place: S; Tolerance: 1%; Check: False; Value: 100K; Temperature: -55°C~155°C; ComponentLink1Description: DATASHEET; ComponentLink1URL: https://www.yageo.com/upload/media/product/productsearch/datasheet/rchip/PYu-RC_Group_51_RoHS_L_11.pdf; Datasheet: Datasheets/resistors/PYu-RC_Group_51_RoHS_L_11.pdf; Last changed: 27.10.2022
simulation model Resistor (Model Description)
footprint R_0402
pins: 1, 2
2 alternate drawings of the same symbol

## 0402-0.0625W-100K-100ppm±1%_1
designator R?, comment 100K±1%
Chip Resistor 0402 100kΩ ±1% 50V ±100ppm/℃ Thick Film; Part Number: 0402-0.0625W-100K-100ppm±1%; NameFromManufacturer: RC0402FR-07100KL; Manufacturer: Yageo; Place: *); Value: 100K; Check: False; Case: R0402; Tolerance: 1%; Temperature: -55°C~155°C; ComponentLink1Description: DATASHEET; ComponentLink1URL: https://www.yageo.com/upload/media/product/productsearch/datasheet/rchip/PYu-RC_Group_51_RoHS_L_11.pdf; Datasheet: Datasheets/resistors/PYu-RC_Group_51_RoHS_L_11.pdf; Last changed: 27.10.2022
simulation model Resistor (Model Description)
footprint R0402
pins: 1, 2

## 0402-0.0625W-100K-100ppm±5%
designator R?, comment 100K±5%
Part Number: 0402-0.0625W-100K-100ppm±5%; NameFromManufacturer: RC0402JR-07100KL; Manufacturer: Yageo; Place: *); Value: 100K; Tolerance: 5%; Check: False; Case: R0402; Temperature: -55°C~155°C; ComponentLink1Description: DATASHEET; ComponentLink1URL: https://ru.mouser.com/ProductDetail/YAGEO/RC0402JR-07100KL?qs=%2Fha2pyFadugNN0LzwXn2qCsICuw6vgLBeLL%252BmXUKy2OLGS9kgqrNBA%3D%3D; Datasheet: Datasheets/resistors/PYu-RC_Group_51_RoHS_L_11.pdf; Last changed: 27.10.2022
simulation model Resistor (Model Description)
footprint R0402
pins: 1, 2

## 0402-0.0625W-100K-100ppm±5%_1
designator R?, comment 100K
Part Number: 0402-0.0625W-100K-100ppm±5%; NameFromManufacturer: RC0402JR-07100KL; Manufacturer: Yageo; Place: S; Tolerance: 5%; Check: False; Value: 100K; Temperature: -55°C~155°C; ComponentLink1Description: DATASHEET; ComponentLink1URL: https://ru.mouser.com/ProductDetail/YAGEO/RC0402JR-07100KL?qs=%2Fha2pyFadugNN0LzwXn2qCsICuw6vgLBeLL%252BmXUKy2OLGS9kgqrNBA%3D%3D; Datasheet: Datasheets/resistors/PYu-RC_Group_51_RoHS_L_11.pdf; Last changed: 27.10.2022
simulation model Resistor (Model Description)
footprint R_0402
pins: 1, 2
2 alternate drawings of the same symbol

## 0402-0.0625W-100R-100ppm±1%
designator R?, comment 100R±1%
Chip Resistor 0402 100Ω ±1% 50V ±100ppm/℃ Thick Film; Part Number: 0402-0.0625W-100R-100ppm±1%; NameFromManufacturer: RC0402FR-07100RL; Manufacturer: Yageo; Place: *); Value: 100R; Check: False; Case: R0402; Tolerance: 1%; Temperature: -55°C~155°C; ComponentLink1Description: DATASHEET; ComponentLink1URL: https://www.yageo.com/upload/media/product/productsearch/datasheet/rchip/PYu-RC_Group_51_RoHS_L_11.pdf; Datasheet: Datasheets/resistors/PYu-RC_Group_51_RoHS_L_11.pdf; Last changed: 27.10.2022
simulation model Resistor (Model Description)
footprint R0402
pins: 1, 2

## 0402-0.0625W-100R-100ppm±1%_1
designator R?, comment 100R
Part Number: 0402-0.0625W-100R-100ppm±1%; NameFromManufacturer: RC0402FR-07100RL; Manufacturer: Yageo; Place: S; Tolerance: 1%; Check: False; Value: 100R; Temperature: -55°C~155°C; ComponentLink1Description: DATASHEET; ComponentLink1URL: https://www.yageo.com/upload/media/product/productsearch/datasheet/rchip/PYu-RC_Group_51_RoHS_L_11.pdf; Datasheet: Datasheets/resistors/PYu-RC_Group_51_RoHS_L_11.pdf; Last changed: 27.10.2022
simulation model Resistor (Model Description)
footprint R_0402
pins: 1, 2
2 alternate drawings of the same symbol

## 0402-0.0625W-110K-100ppm±1%
designator R?, comment 110K±1%
Part Number: 0402-0.0625W-110K-100ppm±1%; NameFromManufacturer: RC0402FR-07110KL; Manufacturer: Yageo; Place: *); Value: 110K; Tolerance: 1%; Check: False; Case: R0402; Temperature: -55°C~155°C; ComponentLink1Description: DATASHEET; ComponentLink1URL: https://www.compel.ru/infosheet/YAG/RC0402FR-07110KL; Datasheet: Datasheets/resistors/PYu-RC_Group_51_RoHS_L_11.pdf; Last changed: 27.10.2022
simulation model Resistor (Model Description)
footprint R0402
pins: 1, 2

## 0402-0.0625W-120K-100ppm±1%
designator R?, comment 120K±1%
Part Number: 0402-0.0625W-120K-100ppm±1%; NameFromManufacturer: RC0402FR-07120KL; Manufacturer: Yageo; Place: *); Value: 120K; Tolerance: 1%; Check: False; Case: R0402; Temperature: -55°C~155°C; ComponentLink1Description: DATASHEET; ComponentLink1URL: https://eu.mouser.com/ProductDetail/YAGEO/RC0402FR-07120KL?qs=sxZXDnvRBEiD8SsZ%252BM9D1g%3D%3D; Datasheet: Datasheets/resistors/PYu-RC_Group_51_RoHS_L_11.pdf; Last changed: 27.10.2022
simulation model Resistor (Model Description)
footprint R0402
pins: 1, 2

## 0402-0.0625W-120R-100ppm±1%
designator R?, comment 120R±1%
Part Number: 0402-0.0625W-120R-100ppm±1%; NameFromManufacturer: RC0402FR-07120RL; Manufacturer: Yageo; Place: *); Value: 120R; Tolerance: 1%; Check: False; Case: R0402; Temperature: -55°C~155°C; ComponentLink1Description: DATASHEET; ComponentLink1URL: https://www.electronshik.ru/item/YAG/RC0402FR-07120RL; Datasheet: chrome-extension://efaidnbmnnnibpcajpcglclefindmkaj/https://data.electronshik.ru/z/Datasheet/R/RC0402.pdf##; Last changed: 03.04.2023
simulation model Resistor (Model Description)
footprint R0402
pins: 1, 2

## 0402-0.0625W-120R-200ppm±5%
designator R?, comment 120R±5%
Part Number: 0402-0.0625W-120R-200ppm±5%; NameFromManufacturer: RC0402JR-07120RL; Manufacturer: Yageo; Place: *); Value: 120R; Tolerance: 5%; Check: False; Case: R0402; Temperature: -55°C~155°C; ComponentLink1Description: DATASHEET; ComponentLink1URL: https://www.electronshik.ru/item/YAG/RC0402JR-07120RL; Datasheet: Datasheets/resistors/PYu-RC_Group_51_RoHS_L_12.pdf; Last changed: 27.10.2022
simulation model Resistor (Model Description)
footprint R0402
pins: 1, 2

## 0402-0.0625W-150K-100ppm±1%
designator R?, comment 150K±1%
Part Number: 0402-0.0625W-150K-100ppm±1%; NameFromManufacturer: RC0402FR-07150KL; Manufacturer: Yageo; Place: *); Value: 150K; Tolerance: 1%; Check: False; Case: R0402; Temperature: -55°C~155°C; ComponentLink1Description: DATASHEET; ComponentLink1URL: https://www.yageo.com/upload/media/product/productsearch/datasheet/rchip/PYu-RC_Group_51_RoHS_L_11.pdf; Datasheet: Datasheets/resistors/PYu-RC_Group_51_RoHS_L_11.pdf; Last changed: 27.10.2022
simulation model Resistor (Model Description)
footprint R0402
pins: 1, 2

## 0402-0.0625W-200K-100ppm±5%
designator R?, comment 200K±5%
*; Part Number: 0402-0.0625W-200K-100ppm±5%; NameFromManufacturer: RC0402JR-07200KL; Manufacturer: Yageo; Place: *); Value: 200K; Tolerance: 5%; Check: False; Case: R0402; Temperature: -55°C~125°C; ComponentLink1Description: DATASHEET; ComponentLink1URL: https://ru.mouser.com/datasheet/2/447/PYu_RC_Group_51_RoHS_L_10-1664068.pdf; Datasheet: Datasheets/resistors/PYu_RC_Group_51_RoHS_L_10-1664068.pdf; Last changed: 27.10.2022
simulation model Resistor (Model Description)
footprint R0402
pins: 1, 2

## 0402-0.0625W-200R-100ppm±1%
designator R?, comment 200R±1%
Part Number: 0402-0.0625W-200R-100ppm±1%; NameFromManufacturer: CRCW0402200RFKED; Manufacturer: Vishay Intertechnology Inc.; Place: *); Value: 200R; Tolerance: 1%; Check: False; Case: R0402; Temperature: -55°C~155°C; ComponentLink1Description: DATASHEET; ComponentLink1URL: https://www.terraelectronica.ru/product/683043; Datasheet: Datasheets/resistors/dcrcwe3.pdf; Last changed: 27.10.2022
simulation model Resistor (Model Description)
footprint R0402
pins: 1, 2

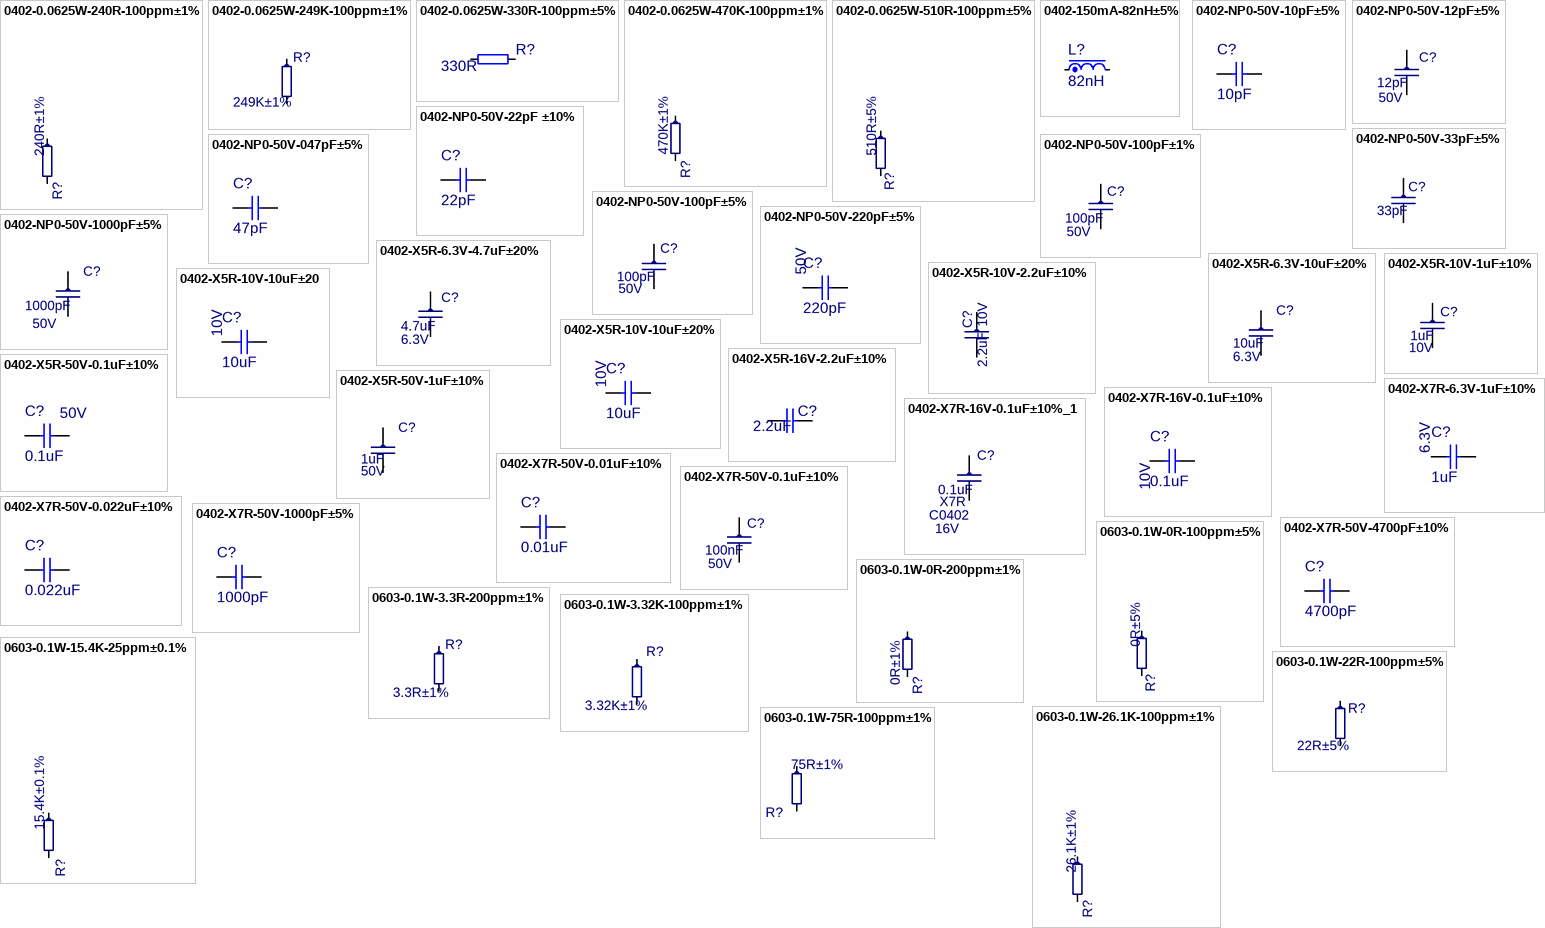
[diagram p2: symbols 0402-0.0625W-240R-100ppm±1% to 0603-0.1W-75R-100ppm±1%]

## 0402-0.0625W-240R-100ppm±1%
designator R?, comment 240R±1%
Part Number: 0402-0.0625W-240R-100ppm±1%; NameFromManufacturer: RC0402FR-07240RL; Manufacturer: Yageo; Place: *); Value: 240R; Tolerance: 1%; Check: False; Case: R0402; Temperature: -55°C~155°C; ComponentLink1Description: DATASHEET; ComponentLink1URL: https://www.terraelectronica.ru/product/870661; Datasheet: Datasheets/resistors/PYu-RC_Group_51_RoHS_L_11.pdf; Last changed: 27.10.2022
simulation model Resistor (Model Description)
footprint R0402
pins: 1, 2

## 0402-0.0625W-249K-100ppm±1%
designator R?, comment 249K±1%
Part Number: 0402-0.0625W-249K-100ppm±1%; NameFromManufacturer: RC0402FR-07249KL; Manufacturer: Yageo; Place: *); Value: 249K; Tolerance: 1%; Check: False; Case: R0402; Temperature: -55°C~155°C; ComponentLink1Description: DATASHEET; ComponentLink1URL: https://lcsc.com/product-detail/Chip-Resistor-Surface-Mount_YAGEO-RC0402FR-07249KL_C163476.html; Datasheet: Datasheets/resistors/PYu-RC_Group_51_RoHS_L_12.pdf#Datasheets/resistors/PYu-RC_Group_51_RoHS_L_12.pdf#; Last changed: 09.11.2022
simulation model Resistor (Model Description)
footprint R0402
pins: 1, 2

## 0402-0.0625W-330R-100ppm±5%
designator R?, comment 330R
Part Number: 0402-0.0625W-330R-100ppm±5%; NameFromManufacturer: RC0402JR-07330RL; Manufacturer: Yageo; Place: S; Tolerance: 5%; Check: False; Value: 330R; Temperature: -55°C~155°C; ComponentLink1Description: DATASHEET; ComponentLink1URL: https://www.yageo.com/upload/media/product/productsearch/datasheet/rchip/PYu-RC_Group_51_RoHS_L_11.pdf; Datasheet: Datasheets/resistors/PYu-RC_Group_51_RoHS_L_11.pdf; Last changed: 27.10.2022
simulation model Resistor (Model Description)
footprint R_0402
pins: 1, 2
2 alternate drawings of the same symbol

## 0402-0.0625W-470K-100ppm±1%
designator R?, comment 470K±1%
*; Part Number: 0402-0.0625W-470K-100ppm±1%; NameFromManufacturer: RC0402FR-07470KL; Manufacturer: Yageo; Place: *); Value: 470K; Tolerance: 1%; Check: False; Case: R0402; Temperature: -55°C~155°C; ComponentLink1Description: DATASHEET; ComponentLink1URL: https://www.digikey.com/en/products/detail/yageo/RC0402FR-07470KL/726618?s=N4IgTCBcDaIEoGEAMAWJYBicC0SDsKeSA0gDIgC6AvkA; Datasheet: Datasheets/resistors/PYu-RC_Group_51_RoHS_L_11.pdf; Last changed: 27.10.2022
simulation model Resistor (Model Description)
footprint R0402
pins: 1, 2

## 0402-0.0625W-510R-100ppm±5%
designator R?, comment 510R±5%
Part Number: 0402-0.0625W-510R-100ppm±5%; NameFromManufacturer: RC0402JR-07510RL; Manufacturer: Yageo; Place: *); Value: 510R; Tolerance: 5%; Check: False; Case: R0402; Temperature: -55°C~155°C; ComponentLink1Description: DATASHEET; ComponentLink1URL: https://www.digikey.com/en/products/detail/yageo/RC0402JR-07510RL/726490; Datasheet: Datasheets/resistors/PYu-RC_Group_51_RoHS_L_11.pdf; Last changed: 27.10.2022
simulation model Resistor (Model Description)
footprint R0402
pins: 1, 2

## 0402-150mA-82nH±5%
designator L?, comment 82nH
Part Number: 0402-150mA-82nH±5%; Manufacturer: Murata Electronics; NameFromManufacturer: LQG15HN82NJ02D; Place: S; Tolerance: 5%; Current: 150mA; DC Resistance: 1.6R; Check: False; Analog: MLG1005S82NJT000; Annotation: *; Param: *; Value: 82nH; Temperature: -55°C~125°C; ComponentLink1Description: DATASHEET; ComponentLink1URL: https://www.terraelectronica.ru/product/577602; Datasheet: #https://search.murata.co.jp/Ceramy/image/img/P02/JELF243B-0009.pdf#; Last changed: 30.06.2022; ClassName: UART-GPS
footprint L0402
pins: 1, 2

## 0402-NP0-50V-10pF±5%
designator C?, comment 10pF
Part Number: 0402-NP0-50V-10pF±5%; Manufacturer: Yageo; NameFromManufacturer: CC0402JRNPO9BN100; Place: S; Voltage: 50V; Tolerance: 5%; Check: False; Value: 10pF; Temperature: -55°C~125°C; ComponentLink2Description: Link to datasheet; ComponentLink1Description: DATASHEET; ComponentLink2URL: https://www.terraelectronica.ru/pdf/show?pdf_file=%252Fds%252Fpdf%252FN%252Fnpo.pdf; ComponentLink1URL: Datasheets/capacitors/DOC012565825.pdf; Last changed: 27.10.2022
footprint C0402 (Chip Capacitor, Body 1.0x0.5mm, IPC High Density)
footprint C0603 (Chip Capacitor, Body 1.6x0.8mm, IPC High Density)
footprint C0805 (Chip Capacitor, Body 2.0x1.3mm, IPC High Density)
footprint C1206 (Chip Capacitor, Body 3.2x1.6mm, IPC High Density)
footprint C1210 (Chip Capacitor, Body 3.2x2.5mm, IPC High Density)
footprint C1812 (Chip Capacitor, Body 4.5x3.2mm, IPC High Density)
pins: 1, 2
1 alternate drawing of the same symbol

## 0402-NP0-50V-12pF±5%
designator C?, comment 12pF  Voltage: 50V
Part Number: 0402-NP0-50V-12pF±5%; Manufacturer: Murata Electronics; NameFromManufacturer: GRM1555C1H120JA01D; Dielectric: NP0; Place: *); Tolerance: 5%; Check: False; Case: C0402; Value: 12pF; Temperature: -55°C~125°C; ComponentLink2Description: Link to datasheet; ComponentLink1Description: DATASHEET; ComponentLink2URL: https://www.terraelectronica.ru/pdf/show?pdf_file=http%253A%252F%252Fwww.farnell.com%252Fdatasheets%252F2048662.pdf; ComponentLink1URL: Datasheets/capacitors/GRM1555C1H120JA01-01A.pdf; Last changed: 27.10.2022
footprint C0402
pins: 1, 2
1 alternate drawing of the same symbol